# Altium schematic symbol library SW_MCU_Library_20180827.SCHLIB: 21 symbols
Pins are listed as number, name and electrical type; pins without a type are passive.

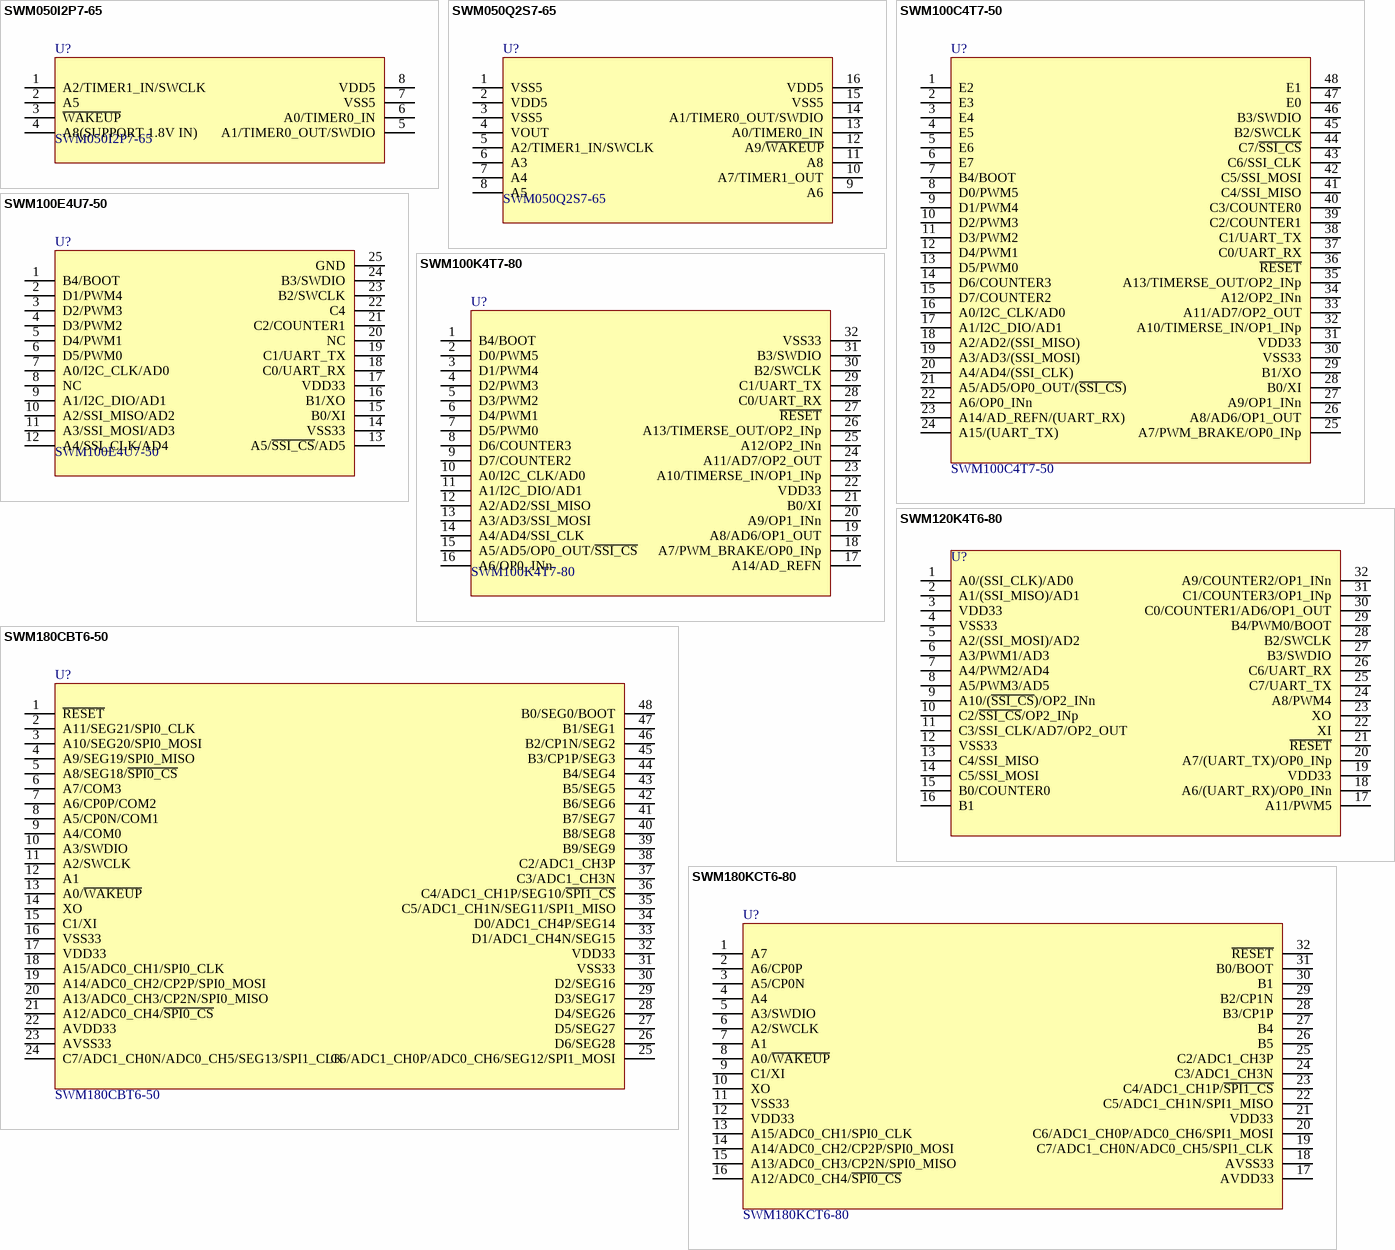
[diagram p0: symbols SWM050I2P7-65 to SWM180KCT6-80]

## SWM050I2P7-65
designator U?
微控制器, Cortex-M0系列
footprint TSSOP8 (TSOP, 8-Leads, Body 3x4.4mm, Pitch 0.65mm, IPC Low Density)
pins: 1 A2/TIMER1_IN/SWCLK, 2 A5, 3 ~{WAKEUP}, 4 A8(SUPPORT 1.8V IN), 5 A1/TIMER0_OUT/SWDIO, 6 A0/TIMER0_IN, 7 VSS5, 8 VDD5

## SWM050Q2S7-65
designator U?
微控制器, Cortex-M0系列
footprint SSOP16 (SSOP; 16 Leads; Body Width 5.3 mm; Pitch 0.65 mm)
pins: 1 VSS5, 2 VDD5, 3 VSS5, 4 VOUT, 5 A2/TIMER1_IN/SWCLK, 6 A3, 7 A4, 8 A5, 9 A6, 10 A7/TIMER1_OUT, 11 A8, 12 A9/~{WAKEUP}, 13 A0/TIMER0_IN, 14 A1/TIMER0_OUT/SWDIO, 15 VSS5, 16 VDD5

## SWM100C4T7-50
designator U?
微控制器, Cortex-M0系列
footprint LQFP48 (48-Pin Low-profile Quad Flat Pack 0.5 mm Pitch, IPC Low Density)
pins: 1 E2, 2 E3, 3 E4, 4 E5, 5 E6, 6 E7, 7 B4/BOOT, 8 D0/PWM5, 9 D1/PWM4, 10 D2/PWM3, 11 D3/PWM2, 12 D4/PWM1, 13 D5/PWM0, 14 D6/COUNTER3, 15 D7/COUNTER2, 16 A0/I2C_CLK/AD0, 17 A1/I2C_DIO/AD1, 18 A2/AD2/(SSI_MISO), 19 A3/AD3/(SSI_MOSI), 20 A4/AD4/(SSI_CLK), 21 A5/AD5/OP0_OUT/(~{SSI_CS}), 22 A6/OP0_INn, 23 A14/AD_REFN/(UART_RX), 24 A15/(UART_TX), 25 A7/PWM_BRAKE/OP0_INp, 26 A8/AD6/OP1_OUT, 27 A9/OP1_INn, 28 B0/XI, 29 B1/XO, 30 VSS33, 31 VDD33, 32 A10/TIMERSE_IN/OP1_INp, 33 A11/AD7/OP2_OUT, 34 A12/OP2_INn, 35 A13/TIMERSE_OUT/OP2_INp, 36 ~{RESET}, 37 C0/UART_RX, 38 C1/UART_TX, 39 C2/COUNTER1, 40 C3/COUNTER0, 41 C4/SSI_MISO, 42 C5/SSI_MOSI, 43 C6/SSI_CLK, 44 C7/~{SSI_CS}, 45 B2/SWCLK, 46 B3/SWDIO, 47 E0, 48 E1

## SWM100E4U7-50
designator U?
微控制器, Cortex-M0系列
footprint QFN24 (QFN, 24-Leads, Body 4x4mm, Pitch 0.5mm, IPC Low Density)
pins: 1 B4/BOOT, 2 D1/PWM4, 3 D2/PWM3, 4 D3/PWM2, 5 D4/PWM1, 6 D5/PWM0, 7 A0/I2C_CLK/AD0, 8 NC, 9 A1/I2C_DIO/AD1, 10 A2/SSI_MISO/AD2, 11 A3/SSI_MOSI/AD3, 12 A4/SSI_CLK/AD4, 13 A5/~{SSI_CS}/AD5, 14 VSS33, 15 B0/XI, 16 B1/XO, 17 VDD33, 18 C0/UART_RX, 19 C1/UART_TX, 20 NC, 21 C2/COUNTER1, 22 C4, 23 B2/SWCLK, 24 B3/SWDIO, 25 GND

## SWM100K4T7-80
designator U?
微控制器, Cortex-M0系列
footprint LQFP32 (TQFP, 32-Leads, Body 9.1x9.1mm (max), Pitch 0.80mm, IPC Medium Density)
footprint LQFP32 (TQFP, 32-Leads, Body 9.1x9.1mm (max), Pitch 0.80mm, IPC Medium Density)
pins: 1 B4/BOOT, 2 D0/PWM5, 3 D1/PWM4, 4 D2/PWM3, 5 D3/PWM2, 6 D4/PWM1, 7 D5/PWM0, 8 D6/COUNTER3, 9 D7/COUNTER2, 10 A0/I2C_CLK/AD0, 11 A1/I2C_DIO/AD1, 12 A2/AD2/SSI_MISO, 13 A3/AD3/SSI_MOSI, 14 A4/AD4/SSI_CLK, 15 A5/AD5/OP0_OUT/~{SSI_CS}, 16 A6/OP0_INn, 17 A14/AD_REFN, 18 A7/PWM_BRAKE/OP0_INp, 19 A8/AD6/OP1_OUT, 20 A9/OP1_INn, 21 B0/XI, 22 VDD33, 23 A10/TIMERSE_IN/OP1_INp, 24 A11/AD7/OP2_OUT, 25 A12/OP2_INn, 26 A13/TIMERSE_OUT/OP2_INp, 27 ~{RESET}, 28 C0/UART_RX, 29 C1/UART_TX, 30 B2/SWCLK, 31 B3/SWDIO, 32 VSS33

## SWM120K4T6-80
designator U?  (value not drawn)
微控制器, Cortex-M0系列
footprint LQFP32 (TQFP, 32-Leads, Body 9.2x9.2mm (max), Pitch 0.80mm, IPC Medium Density)
footprint SW-1200-1p2-test
footprint KL8
pins: 1 A0/(SSI_CLK)/AD0, 2 A1/(SSI_MISO)/AD1, 3 VDD33, 4 VSS33, 5 A2/(SSI_MOSI)/AD2, 6 A3/PWM1/AD3, 7 A4/PWM2/AD4, 8 A5/PWM3/AD5, 9 A10/(~{SSI_CS})/OP2_INn, 10 C2/~{SSI_CS}/OP2_INp, 11 C3/SSI_CLK/AD7/OP2_OUT, 12 VSS33, 13 C4/SSI_MISO, 14 C5/SSI_MOSI, 15 B0/COUNTER0, 16 B1, 17 A11/PWM5, 18 A6/(UART_RX)/OP0_INn, 19 VDD33, 20 A7/(UART_TX)/OP0_INp, 21 ~{RESET}, 22 XI, 23 XO, 24 A8/PWM4, 25 C7/UART_TX, 26 C6/UART_RX, 27 B3/SWDIO, 28 B2/SWCLK, 29 B4/PWM0/BOOT, 30 C0/COUNTER1/AD6/OP1_OUT, 31 C1/COUNTER3/OP1_INp, 32 A9/COUNTER2/OP1_INn

## SWM180CBT6-50
designator U?
微控制器, Cortex-M0系列
footprint LQFP48 (48-Pin Low-profile Quad Flat Pack 0.5 mm Pitch, IPC Low Density)
pins: 1 ~{RESET}, 2 A11/SEG21/SPI0_CLK, 3 A10/SEG20/SPI0_MOSI, 4 A9/SEG19/SPI0_MISO, 5 A8/SEG18/~{SPI0_CS}, 6 A7/COM3, 7 A6/CP0P/COM2, 8 A5/CP0N/COM1, 9 A4/COM0, 10 A3/SWDIO, 11 A2/SWCLK, 12 A1, 13 A0/~{WAKEUP}, 14 XO, 15 C1/XI, 16 VSS33, 17 VDD33, 18 A15/ADC0_CH1/SPI0_CLK, 19 A14/ADC0_CH2/CP2P/SPI0_MOSI, 20 A13/ADC0_CH3/CP2N/SPI0_MISO, 21 A12/ADC0_CH4/~{SPI0_CS}, 22 AVDD33, 23 AVSS33, 24 C7/ADC1_CH0N/ADC0_CH5/SEG13/SPI1_CLK, 25 C6/ADC1_CH0P/ADC0_CH6/SEG12/SPI1_MOSI, 26 D6/SEG28, 27 D5/SEG27, 28 D4/SEG26, 29 D3/SEG17, 30 D2/SEG16, 31 VSS33, 32 VDD33, 33 D1/ADC1_CH4N/SEG15, 34 D0/ADC1_CH4P/SEG14, 35 C5/ADC1_CH1N/SEG11/SPI1_MISO, 36 C4/ADC1_CH1P/SEG10/~{SPI1_CS}, 37 C3/ADC1_CH3N, 38 C2/ADC1_CH3P, 39 B9/SEG9, 40 B8/SEG8, 41 B7/SEG7, 42 B6/SEG6, 43 B5/SEG5, 44 B4/SEG4, 45 B3/CP1P/SEG3, 46 B2/CP1N/SEG2, 47 B1/SEG1, 48 B0/SEG0/BOOT

## SWM180KCT6-80
designator U?
微控制器, Cortex-M0系列
footprint LQFP32 (TQFP, 32-Leads, Body 9.2x9.2mm (max), Pitch 0.80mm, IPC Medium Density)
pins: 1 A7, 2 A6/CP0P, 3 A5/CP0N, 4 A4, 5 A3/SWDIO, 6 A2/SWCLK, 7 A1, 8 A0/~{WAKEUP}, 9 C1/XI, 10 XO, 11 VSS33, 12 VDD33, 13 A15/ADC0_CH1/SPI0_CLK, 14 A14/ADC0_CH2/CP2P/SPI0_MOSI, 15 A13/ADC0_CH3/CP2N/SPI0_MISO, 16 A12/ADC0_CH4/~{SPI0_CS}, 17 AVDD33, 18 AVSS33, 19 C7/ADC1_CH0N/ADC0_CH5/SPI1_CLK, 20 C6/ADC1_CH0P/ADC0_CH6/SPI1_MOSI, 21 VDD33, 22 C5/ADC1_CH1N/SPI1_MISO, 23 C4/ADC1_CH1P/~{SPI1_CS}, 24 C3/ADC1_CH3N, 25 C2/ADC1_CH3P, 26 B5, 27 B4, 28 B3/CP1P, 29 B2/CP1N, 30 B1, 31 B0/BOOT, 32 ~{RESET}

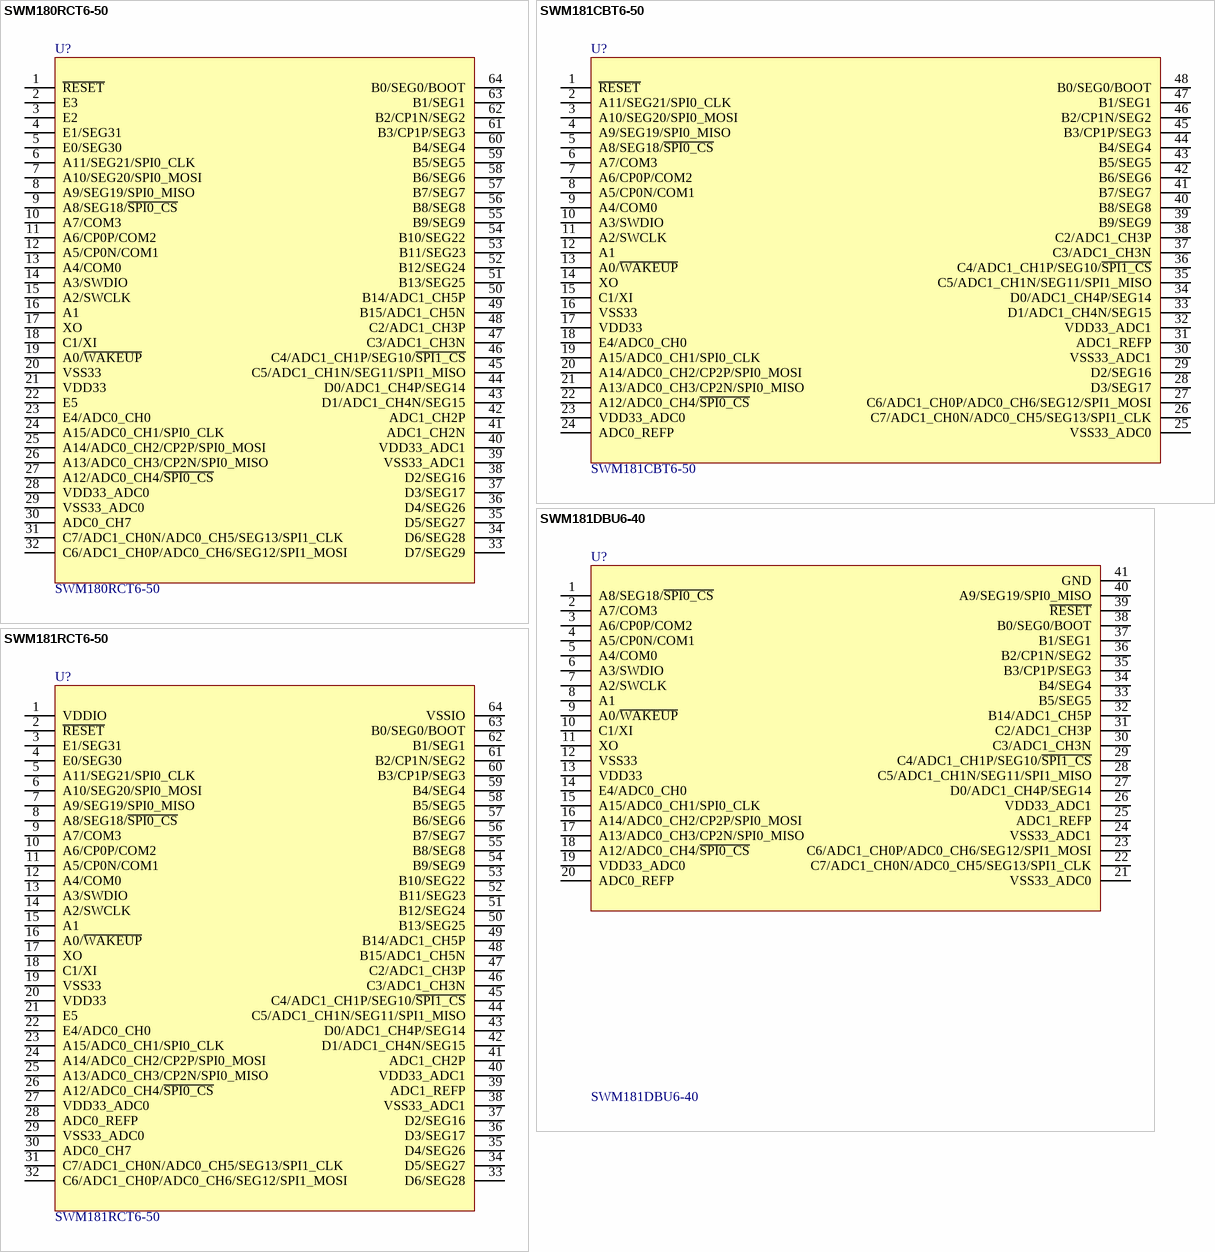
[diagram p1: symbols SWM180RCT6-50 to SWM181RCT6-50]

## SWM180RCT6-50
designator U?
微控制器, Cortex-M0系列
footprint LQFP64 (Thin QFP, 64-Leads, Body 10x10mm, Pitch 0.5mm, IPC Low Density)
pins: 1 ~{RESET}, 2 E3, 3 E2, 4 E1/SEG31, 5 E0/SEG30, 6 A11/SEG21/SPI0_CLK, 7 A10/SEG20/SPI0_MOSI, 8 A9/SEG19/SPI0_MISO, 9 A8/SEG18/~{SPI0_CS}, 10 A7/COM3, 11 A6/CP0P/COM2, 12 A5/CP0N/COM1, 13 A4/COM0, 14 A3/SWDIO, 15 A2/SWCLK, 16 A1, 17 XO, 18 C1/XI, 19 A0/~{WAKEUP}, 20 VSS33, 21 VDD33, 22 E5, 23 E4/ADC0_CH0, 24 A15/ADC0_CH1/SPI0_CLK, 25 A14/ADC0_CH2/CP2P/SPI0_MOSI, 26 A13/ADC0_CH3/CP2N/SPI0_MISO, 27 A12/ADC0_CH4/~{SPI0_CS}, 28 VDD33_ADC0, 29 VSS33_ADC0, 30 ADC0_CH7, 31 C7/ADC1_CH0N/ADC0_CH5/SEG13/SPI1_CLK, 32 C6/ADC1_CH0P/ADC0_CH6/SEG12/SPI1_MOSI, 33 D7/SEG29, 34 D6/SEG28, 35 D5/SEG27, 36 D4/SEG26, 37 D3/SEG17, 38 D2/SEG16, 39 VSS33_ADC1, 40 VDD33_ADC1, 41 ADC1_CH2N, 42 ADC1_CH2P, 43 D1/ADC1_CH4N/SEG15, 44 D0/ADC1_CH4P/SEG14, 45 C5/ADC1_CH1N/SEG11/SPI1_MISO, 46 C4/ADC1_CH1P/SEG10/~{SPI1_CS}, 47 C3/ADC1_CH3N, 48 C2/ADC1_CH3P, 49 B15/ADC1_CH5N, 50 B14/ADC1_CH5P, 51 B13/SEG25, 52 B12/SEG24, 53 B11/SEG23, 54 B10/SEG22, 55 B9/SEG9, 56 B8/SEG8, 57 B7/SEG7, 58 B6/SEG6, 59 B5/SEG5, 60 B4/SEG4, 61 B3/CP1P/SEG3, 62 B2/CP1N/SEG2, 63 B1/SEG1, 64 B0/SEG0/BOOT

## SWM181CBT6-50
designator U?
微控制器, Cortex-M0系列, AA-00
footprint HDR2X24 (SWM1500; Header; 64 Position)
pins: 1 ~{RESET}, 2 A11/SEG21/SPI0_CLK, 3 A10/SEG20/SPI0_MOSI, 4 A9/SEG19/SPI0_MISO, 5 A8/SEG18/~{SPI0_CS}, 6 A7/COM3, 7 A6/CP0P/COM2, 8 A5/CP0N/COM1, 9 A4/COM0, 10 A3/SWDIO, 11 A2/SWCLK, 12 A1, 13 A0/~{WAKEUP}, 14 XO, 15 C1/XI, 16 VSS33, 17 VDD33, 18 E4/ADC0_CH0, 19 A15/ADC0_CH1/SPI0_CLK, 20 A14/ADC0_CH2/CP2P/SPI0_MOSI, 21 A13/ADC0_CH3/CP2N/SPI0_MISO, 22 A12/ADC0_CH4/~{SPI0_CS}, 23 VDD33_ADC0, 24 ADC0_REFP, 25 VSS33_ADC0, 26 C7/ADC1_CH0N/ADC0_CH5/SEG13/SPI1_CLK, 27 C6/ADC1_CH0P/ADC0_CH6/SEG12/SPI1_MOSI, 28 D3/SEG17, 29 D2/SEG16, 30 VSS33_ADC1, 31 ADC1_REFP, 32 VDD33_ADC1, 33 D1/ADC1_CH4N/SEG15, 34 D0/ADC1_CH4P/SEG14, 35 C5/ADC1_CH1N/SEG11/SPI1_MISO, 36 C4/ADC1_CH1P/SEG10/~{SPI1_CS}, 37 C3/ADC1_CH3N, 38 C2/ADC1_CH3P, 39 B9/SEG9, 40 B8/SEG8, 41 B7/SEG7, 42 B6/SEG6, 43 B5/SEG5, 44 B4/SEG4, 45 B3/CP1P/SEG3, 46 B2/CP1N/SEG2, 47 B1/SEG1, 48 B0/SEG0/BOOT

## SWM181DBU6-40
designator U?
微控制器, Cortex-M0系列, AA-00
footprint LQFP64 (Thin QFP, 64-Leads, Body 10x10mm, Pitch 0.5mm, IPC Low Density)
pins: 1 A8/SEG18/~{SPI0_CS}, 2 A7/COM3, 3 A6/CP0P/COM2, 4 A5/CP0N/COM1, 5 A4/COM0, 6 A3/SWDIO, 7 A2/SWCLK, 8 A1, 9 A0/~{WAKEUP}, 10 C1/XI, 11 XO, 12 VSS33, 13 VDD33, 14 E4/ADC0_CH0, 15 A15/ADC0_CH1/SPI0_CLK, 16 A14/ADC0_CH2/CP2P/SPI0_MOSI, 17 A13/ADC0_CH3/CP2N/SPI0_MISO, 18 A12/ADC0_CH4/~{SPI0_CS}, 19 VDD33_ADC0, 20 ADC0_REFP, 21 VSS33_ADC0, 22 C7/ADC1_CH0N/ADC0_CH5/SEG13/SPI1_CLK, 23 C6/ADC1_CH0P/ADC0_CH6/SEG12/SPI1_MOSI, 24 VSS33_ADC1, 25 ADC1_REFP, 26 VDD33_ADC1, 27 D0/ADC1_CH4P/SEG14, 28 C5/ADC1_CH1N/SEG11/SPI1_MISO, 29 C4/ADC1_CH1P/SEG10/~{SPI1_CS}, 30 C3/ADC1_CH3N, 31 C2/ADC1_CH3P, 32 B14/ADC1_CH5P, 33 B5/SEG5, 34 B4/SEG4, 35 B3/CP1P/SEG3, 36 B2/CP1N/SEG2, 37 B1/SEG1, 38 B0/SEG0/BOOT, 39 ~{RESET}, 40 A9/SEG19/SPI0_MISO, 41 GND

## SWM181RCT6-50
designator U?
微控制器, Cortex-M0系列, AA-00
footprint LQFP64 (Thin QFP, 64-Leads, Body 10x10mm, Pitch 0.5mm, IPC Low Density)
pins: 1 VDDIO, 2 ~{RESET}, 3 E1/SEG31, 4 E0/SEG30, 5 A11/SEG21/SPI0_CLK, 6 A10/SEG20/SPI0_MOSI, 7 A9/SEG19/SPI0_MISO, 8 A8/SEG18/~{SPI0_CS}, 9 A7/COM3, 10 A6/CP0P/COM2, 11 A5/CP0N/COM1, 12 A4/COM0, 13 A3/SWDIO, 14 A2/SWCLK, 15 A1, 16 A0/~{WAKEUP}, 17 XO, 18 C1/XI, 19 VSS33, 20 VDD33, 21 E5, 22 E4/ADC0_CH0, 23 A15/ADC0_CH1/SPI0_CLK, 24 A14/ADC0_CH2/CP2P/SPI0_MOSI, 25 A13/ADC0_CH3/CP2N/SPI0_MISO, 26 A12/ADC0_CH4/~{SPI0_CS}, 27 VDD33_ADC0, 28 ADC0_REFP, 29 VSS33_ADC0, 30 ADC0_CH7, 31 C7/ADC1_CH0N/ADC0_CH5/SEG13/SPI1_CLK, 32 C6/ADC1_CH0P/ADC0_CH6/SEG12/SPI1_MOSI, 33 D6/SEG28, 34 D5/SEG27, 35 D4/SEG26, 36 D3/SEG17, 37 D2/SEG16, 38 VSS33_ADC1, 39 ADC1_REFP, 40 VDD33_ADC1, 41 ADC1_CH2P, 42 D1/ADC1_CH4N/SEG15, 43 D0/ADC1_CH4P/SEG14, 44 C5/ADC1_CH1N/SEG11/SPI1_MISO, 45 C4/ADC1_CH1P/SEG10/~{SPI1_CS}, 46 C3/ADC1_CH3N, 47 C2/ADC1_CH3P, 48 B15/ADC1_CH5N, 49 B14/ADC1_CH5P, 50 B13/SEG25, 51 B12/SEG24, 52 B11/SEG23, 53 B10/SEG22, 54 B9/SEG9, 55 B8/SEG8, 56 B7/SEG7, 57 B6/SEG6, 58 B5/SEG5, 59 B4/SEG4, 60 B3/CP1P/SEG3, 61 B2/CP1N/SEG2, 62 B1/SEG1, 63 B0/SEG0/BOOT, 64 VSSIO

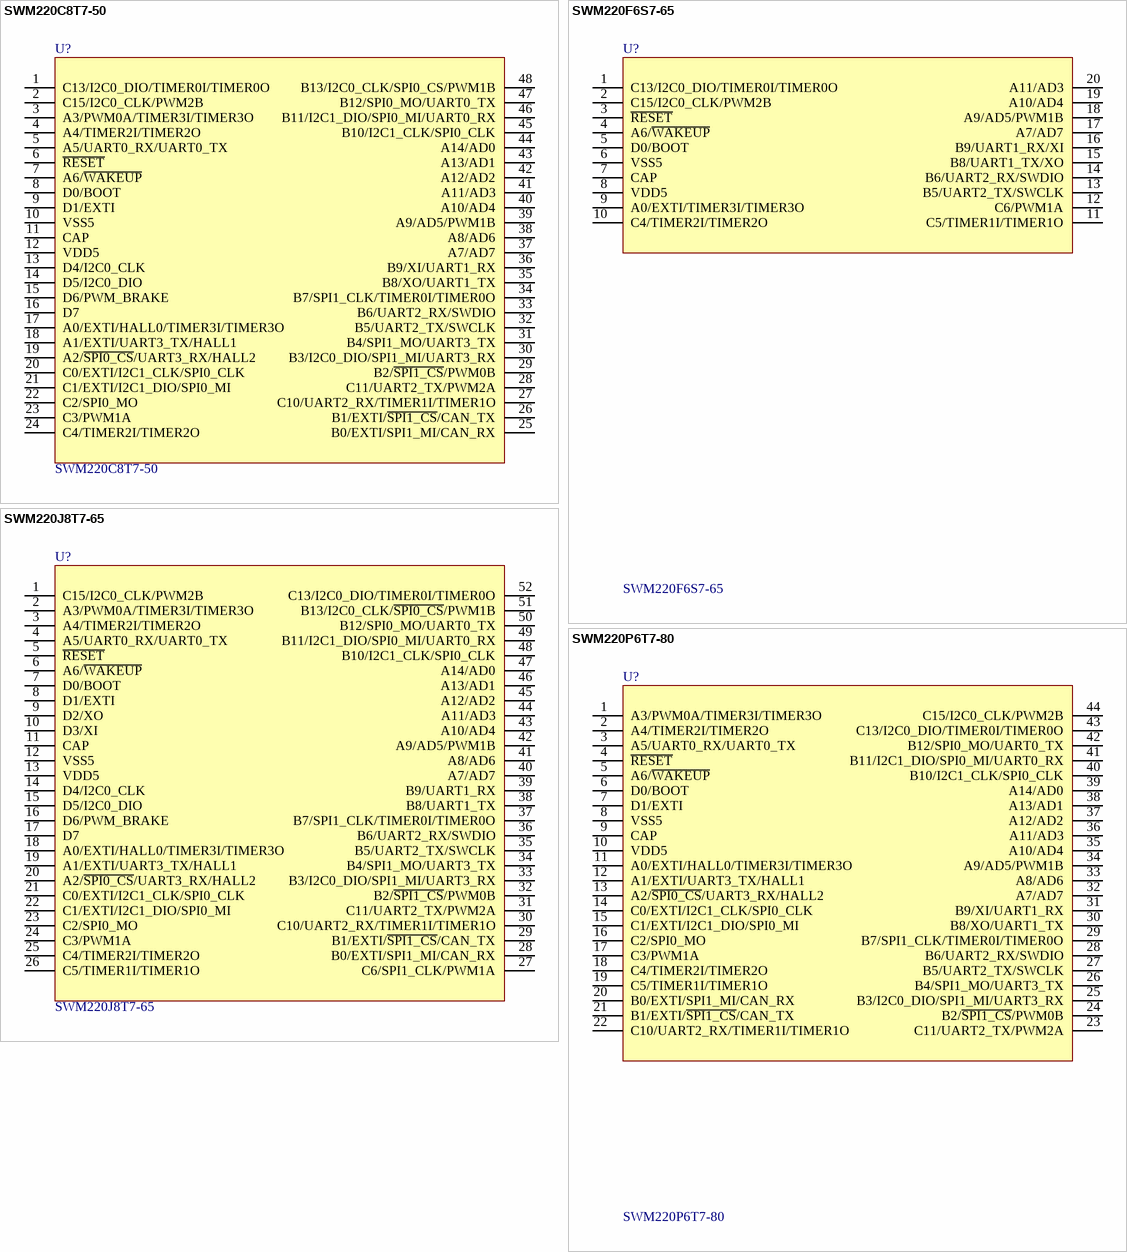
[diagram p2: symbols SWM220C8T7-50 to SWM220P6T7-80]

## SWM220C8T7-50
designator U?
微控制器, Cortex-M0系列
footprint LQFP48 (48-Pin Low-profile Quad Flat Pack 0.5 mm Pitch, IPC Low Density)
pins: 1 C13/I2C0_DIO/TIMER0I/TIMER0O, 2 C15/I2C0_CLK/PWM2B, 3 A3/PWM0A/TIMER3I/TIMER3O, 4 A4/TIMER2I/TIMER2O, 5 A5/UART0_RX/UART0_TX, 6 ~{RESET}, 7 A6/~{WAKEUP}, 8 D0/BOOT, 9 D1/EXTI, 10 VSS5, 11 CAP, 12 VDD5, 13 D4/I2C0_CLK, 14 D5/I2C0_DIO, 15 D6/PWM_BRAKE, 16 D7, 17 A0/EXTI/HALL0/TIMER3I/TIMER3O, 18 A1/EXTI/UART3_TX/HALL1, 19 A2/~{SPI0_CS}/UART3_RX/HALL2, 20 C0/EXTI/I2C1_CLK/SPI0_CLK, 21 C1/EXTI/I2C1_DIO/SPI0_MI, 22 C2/SPI0_MO, 23 C3/PWM1A, 24 C4/TIMER2I/TIMER2O, 25 B0/EXTI/SPI1_MI/CAN_RX, 26 B1/EXTI/~{SPI1_CS}/CAN_TX, 27 C10/UART2_RX/TIMER1I/TIMER1O, 28 C11/UART2_TX/PWM2A, 29 B2/~{SPI1_CS}/PWM0B, 30 B3/I2C0_DIO/SPI1_MI/UART3_RX, 31 B4/SPI1_MO/UART3_TX, 32 B5/UART2_TX/SWCLK, 33 B6/UART2_RX/SWDIO, 34 B7/SPI1_CLK/TIMER0I/TIMER0O, 35 B8/XO/UART1_TX, 36 B9/XI/UART1_RX, 37 A7/AD7, 38 A8/AD6, 39 A9/AD5/PWM1B, 40 A10/AD4, 41 A11/AD3, 42 A12/AD2, 43 A13/AD1, 44 A14/AD0, 45 B10/I2C1_CLK/SPI0_CLK, 46 B11/I2C1_DIO/SPI0_MI/UART0_RX, 47 B12/SPI0_MO/UART0_TX, 48 B13/I2C0_CLK/SPI0_CS/PWM1B

## SWM220F6S7-65
designator U?
微控制器, Cortex-M0系列
footprint SSOP20 (SOP, 20-Leads, Body 7.3x5.4mm (max), Pitch 0.65mm, IPC Medium Density)
pins: 1 C13/I2C0_DIO/TIMER0I/TIMER0O, 2 C15/I2C0_CLK/PWM2B, 3 ~{RESET}, 4 A6/~{WAKEUP}, 5 D0/BOOT, 6 VSS5, 7 CAP, 8 VDD5, 9 A0/EXTI/TIMER3I/TIMER3O, 10 C4/TIMER2I/TIMER2O, 11 C5/TIMER1I/TIMER1O, 12 C6/PWM1A, 13 B5/UART2_TX/SWCLK, 14 B6/UART2_RX/SWDIO, 15 B8/UART1_TX/XO, 16 B9/UART1_RX/XI, 17 A7/AD7, 18 A9/AD5/PWM1B, 19 A10/AD4, 20 A11/AD3

## SWM220J8T7-65
designator U?
微控制器, Cortex-M0系列
footprint LQFP52 (TQFP, 52-Leads, Body 12.2x12.2mm (max), Pitch 0.65mm, IPC Medium Density)
pins: 1 C15/I2C0_CLK/PWM2B, 2 A3/PWM0A/TIMER3I/TIMER3O, 3 A4/TIMER2I/TIMER2O, 4 A5/UART0_RX/UART0_TX, 5 ~{RESET}, 6 A6/~{WAKEUP}, 7 D0/BOOT, 8 D1/EXTI, 9 D2/XO, 10 D3/XI, 11 CAP, 12 VSS5, 13 VDD5, 14 D4/I2C0_CLK, 15 D5/I2C0_DIO, 16 D6/PWM_BRAKE, 17 D7, 18 A0/EXTI/HALL0/TIMER3I/TIMER3O, 19 A1/EXTI/UART3_TX/HALL1, 20 A2/~{SPI0_CS}/UART3_RX/HALL2, 21 C0/EXTI/I2C1_CLK/SPI0_CLK, 22 C1/EXTI/I2C1_DIO/SPI0_MI, 23 C2/SPI0_MO, 24 C3/PWM1A, 25 C4/TIMER2I/TIMER2O, 26 C5/TIMER1I/TIMER1O, 27 C6/SPI1_CLK/PWM1A, 28 B0/EXTI/SPI1_MI/CAN_RX, 29 B1/EXTI/~{SPI1_CS}/CAN_TX, 30 C10/UART2_RX/TIMER1I/TIMER1O, 31 C11/UART2_TX/PWM2A, 32 B2/~{SPI1_CS}/PWM0B, 33 B3/I2C0_DIO/SPI1_MI/UART3_RX, 34 B4/SPI1_MO/UART3_TX, 35 B5/UART2_TX/SWCLK, 36 B6/UART2_RX/SWDIO, 37 B7/SPI1_CLK/TIMER0I/TIMER0O, 38 B8/UART1_TX, 39 B9/UART1_RX, 40 A7/AD7, 41 A8/AD6, 42 A9/AD5/PWM1B, 43 A10/AD4, 44 A11/AD3, 45 A12/AD2, 46 A13/AD1, 47 A14/AD0, 48 B10/I2C1_CLK/SPI0_CLK, 49 B11/I2C1_DIO/SPI0_MI/UART0_RX, 50 B12/SPI0_MO/UART0_TX, 51 B13/I2C0_CLK/~{SPI0_CS}/PWM1B, 52 C13/I2C0_DIO/TIMER0I/TIMER0O

## SWM220P6T7-80
designator U?
微控制器, Cortex-M0系列, AA-00
footprint LQFP64 (Thin QFP, 64-Leads, Body 10x10mm, Pitch 0.5mm, IPC Low Density)
pins: 1 A3/PWM0A/TIMER3I/TIMER3O, 2 A4/TIMER2I/TIMER2O, 3 A5/UART0_RX/UART0_TX, 4 ~{RESET}, 5 A6/~{WAKEUP}, 6 D0/BOOT, 7 D1/EXTI, 8 VSS5, 9 CAP, 10 VDD5, 11 A0/EXTI/HALL0/TIMER3I/TIMER3O, 12 A1/EXTI/UART3_TX/HALL1, 13 A2/~{SPI0_CS}/UART3_RX/HALL2, 14 C0/EXTI/I2C1_CLK/SPI0_CLK, 15 C1/EXTI/I2C1_DIO/SPI0_MI, 16 C2/SPI0_MO, 17 C3/PWM1A, 18 C4/TIMER2I/TIMER2O, 19 C5/TIMER1I/TIMER1O, 20 B0/EXTI/SPI1_MI/CAN_RX, 21 B1/EXTI/~{SPI1_CS}/CAN_TX, 22 C10/UART2_RX/TIMER1I/TIMER1O, 23 C11/UART2_TX/PWM2A, 24 B2/~{SPI1_CS}/PWM0B, 25 B3/I2C0_DIO/SPI1_MI/UART3_RX, 26 B4/SPI1_MO/UART3_TX, 27 B5/UART2_TX/SWCLK, 28 B6/UART2_RX/SWDIO, 29 B7/SPI1_CLK/TIMER0I/TIMER0O, 30 B8/XO/UART1_TX, 31 B9/XI/UART1_RX, 32 A7/AD7, 33 A8/AD6, 34 A9/AD5/PWM1B, 35 A10/AD4, 36 A11/AD3, 37 A12/AD2, 38 A13/AD1, 39 A14/AD0, 40 B10/I2C1_CLK/SPI0_CLK, 41 B11/I2C1_DIO/SPI0_MI/UART0_RX, 42 B12/SPI0_MO/UART0_TX, 43 C13/I2C0_DIO/TIMER0I/TIMER0O, 44 C15/I2C0_CLK/PWM2B

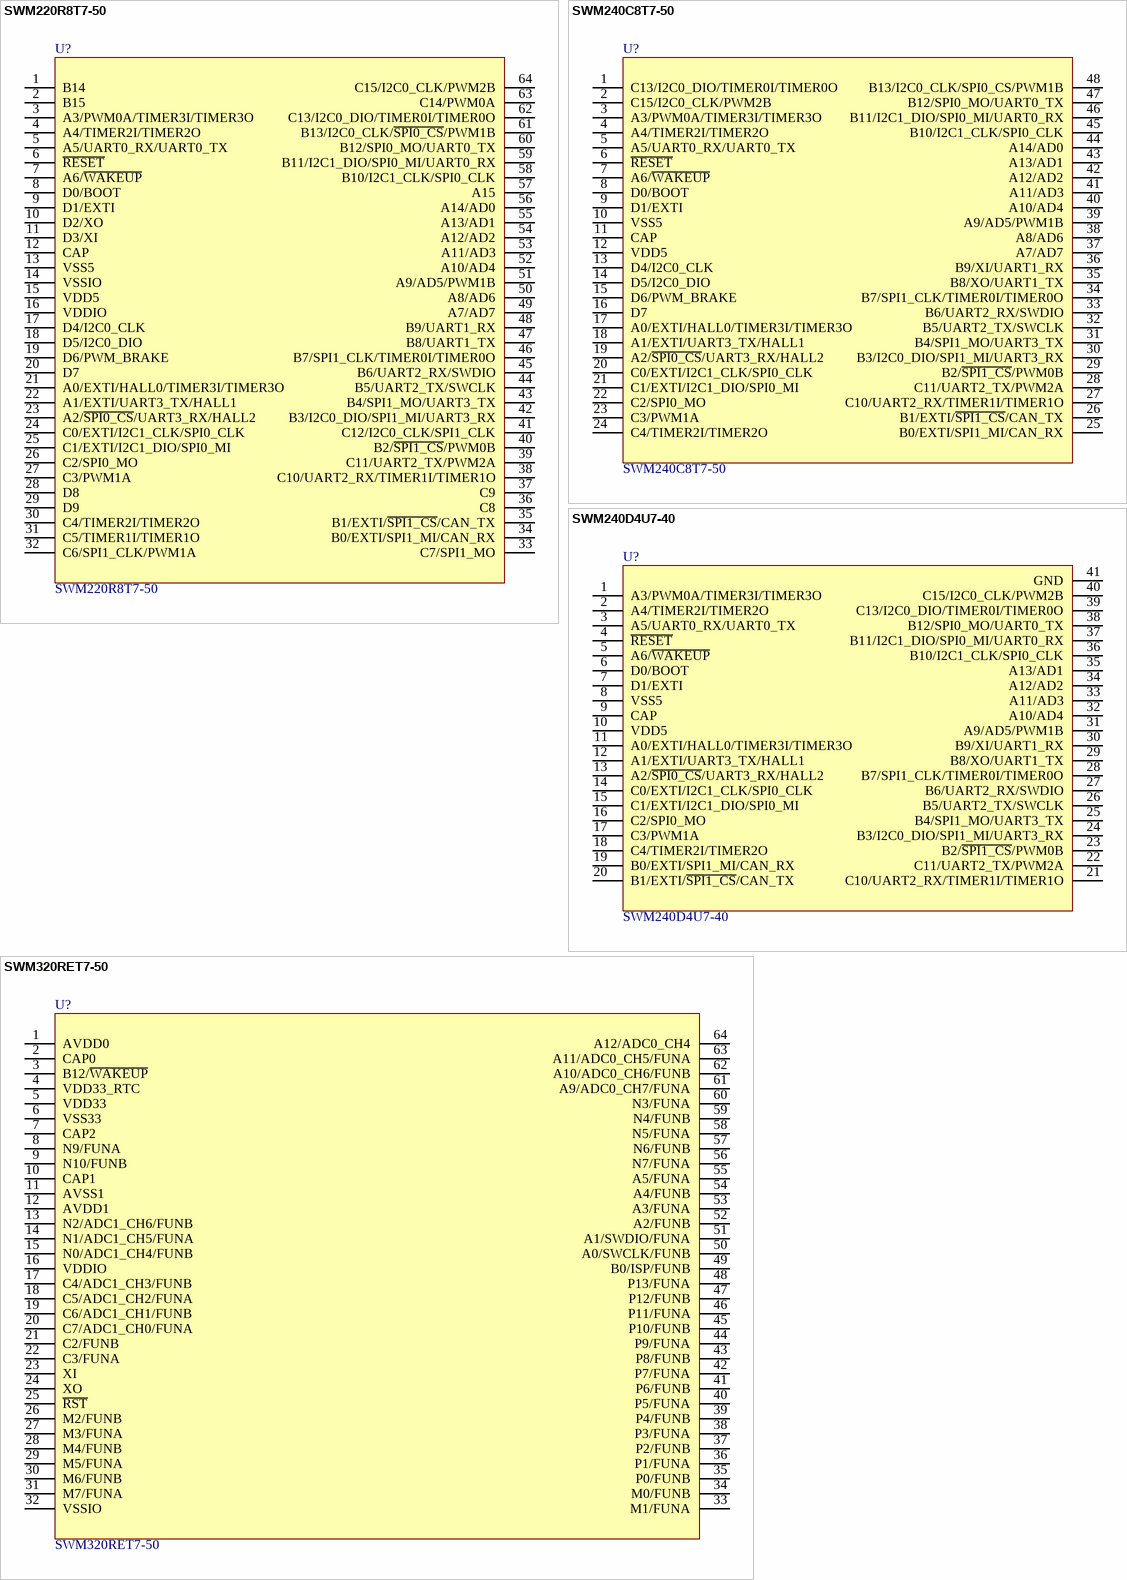
[diagram p3: symbols SWM220R8T7-50 to SWM320RET7-50]

## SWM220R8T7-50
designator U?
微控制器, Cortex-M0系列
footprint LQFP64 (Thin QFP, 64-Leads, Body 10x10mm, Pitch 0.5mm, IPC Low Density)
pins: 1 B14, 2 B15, 3 A3/PWM0A/TIMER3I/TIMER3O, 4 A4/TIMER2I/TIMER2O, 5 A5/UART0_RX/UART0_TX, 6 ~{RESET}, 7 A6/~{WAKEUP}, 8 D0/BOOT, 9 D1/EXTI, 10 D2/XO, 11 D3/XI, 12 CAP, 13 VSS5, 14 VSSIO, 15 VDD5, 16 VDDIO, 17 D4/I2C0_CLK, 18 D5/I2C0_DIO, 19 D6/PWM_BRAKE, 20 D7, 21 A0/EXTI/HALL0/TIMER3I/TIMER3O, 22 A1/EXTI/UART3_TX/HALL1, 23 A2/~{SPI0_CS}/UART3_RX/HALL2, 24 C0/EXTI/I2C1_CLK/SPI0_CLK, 25 C1/EXTI/I2C1_DIO/SPI0_MI, 26 C2/SPI0_MO, 27 C3/PWM1A, 28 D8, 29 D9, 30 C4/TIMER2I/TIMER2O, 31 C5/TIMER1I/TIMER1O, 32 C6/SPI1_CLK/PWM1A, 33 C7/SPI1_MO, 34 B0/EXTI/SPI1_MI/CAN_RX, 35 B1/EXTI/~{SPI1_CS}/CAN_TX, 36 C8, 37 C9, 38 C10/UART2_RX/TIMER1I/TIMER1O, 39 C11/UART2_TX/PWM2A, 40 B2/~{SPI1_CS}/PWM0B, 41 C12/I2C0_CLK/SPI1_CLK, 42 B3/I2C0_DIO/SPI1_MI/UART3_RX, 43 B4/SPI1_MO/UART3_TX, 44 B5/UART2_TX/SWCLK, 45 B6/UART2_RX/SWDIO, 46 B7/SPI1_CLK/TIMER0I/TIMER0O, 47 B8/UART1_TX, 48 B9/UART1_RX, 49 A7/AD7, 50 A8/AD6, 51 A9/AD5/PWM1B, 52 A10/AD4, 53 A11/AD3, 54 A12/AD2, 55 A13/AD1, 56 A14/AD0, 57 A15, 58 B10/I2C1_CLK/SPI0_CLK, 59 B11/I2C1_DIO/SPI0_MI/UART0_RX, 60 B12/SPI0_MO/UART0_TX, 61 B13/I2C0_CLK/~{SPI0_CS}/PWM1B, 62 C13/I2C0_DIO/TIMER0I/TIMER0O, 63 C14/PWM0A, 64 C15/I2C0_CLK/PWM2B

## SWM240C8T7-50
designator U?
微控制器, Cortex-M0系列
footprint LQFP48 (48-Pin Low-profile Quad Flat Pack 0.5 mm Pitch, IPC Low Density)
pins: 1 C13/I2C0_DIO/TIMER0I/TIMER0O, 2 C15/I2C0_CLK/PWM2B, 3 A3/PWM0A/TIMER3I/TIMER3O, 4 A4/TIMER2I/TIMER2O, 5 A5/UART0_RX/UART0_TX, 6 ~{RESET}, 7 A6/~{WAKEUP}, 8 D0/BOOT, 9 D1/EXTI, 10 VSS5, 11 CAP, 12 VDD5, 13 D4/I2C0_CLK, 14 D5/I2C0_DIO, 15 D6/PWM_BRAKE, 16 D7, 17 A0/EXTI/HALL0/TIMER3I/TIMER3O, 18 A1/EXTI/UART3_TX/HALL1, 19 A2/~{SPI0_CS}/UART3_RX/HALL2, 20 C0/EXTI/I2C1_CLK/SPI0_CLK, 21 C1/EXTI/I2C1_DIO/SPI0_MI, 22 C2/SPI0_MO, 23 C3/PWM1A, 24 C4/TIMER2I/TIMER2O, 25 B0/EXTI/SPI1_MI/CAN_RX, 26 B1/EXTI/~{SPI1_CS}/CAN_TX, 27 C10/UART2_RX/TIMER1I/TIMER1O, 28 C11/UART2_TX/PWM2A, 29 B2/~{SPI1_CS}/PWM0B, 30 B3/I2C0_DIO/SPI1_MI/UART3_RX, 31 B4/SPI1_MO/UART3_TX, 32 B5/UART2_TX/SWCLK, 33 B6/UART2_RX/SWDIO, 34 B7/SPI1_CLK/TIMER0I/TIMER0O, 35 B8/XO/UART1_TX, 36 B9/XI/UART1_RX, 37 A7/AD7, 38 A8/AD6, 39 A9/AD5/PWM1B, 40 A10/AD4, 41 A11/AD3, 42 A12/AD2, 43 A13/AD1, 44 A14/AD0, 45 B10/I2C1_CLK/SPI0_CLK, 46 B11/I2C1_DIO/SPI0_MI/UART0_RX, 47 B12/SPI0_MO/UART0_TX, 48 B13/I2C0_CLK/SPI0_CS/PWM1B

## SWM240D4U7-40
designator U?
微控制器, Cortex-M0系列
footprint QFN40 (QFN, 40-Leads, Body 6x6mm, Pitch 0.5mm, IPC Low Density)
pins: 1 A3/PWM0A/TIMER3I/TIMER3O, 2 A4/TIMER2I/TIMER2O, 3 A5/UART0_RX/UART0_TX, 4 ~{RESET}, 5 A6/~{WAKEUP}, 6 D0/BOOT, 7 D1/EXTI, 8 VSS5, 9 CAP, 10 VDD5, 11 A0/EXTI/HALL0/TIMER3I/TIMER3O, 12 A1/EXTI/UART3_TX/HALL1, 13 A2/~{SPI0_CS}/UART3_RX/HALL2, 14 C0/EXTI/I2C1_CLK/SPI0_CLK, 15 C1/EXTI/I2C1_DIO/SPI0_MI, 16 C2/SPI0_MO, 17 C3/PWM1A, 18 C4/TIMER2I/TIMER2O, 19 B0/EXTI/SPI1_MI/CAN_RX, 20 B1/EXTI/~{SPI1_CS}/CAN_TX, 21 C10/UART2_RX/TIMER1I/TIMER1O, 22 C11/UART2_TX/PWM2A, 23 B2/~{SPI1_CS}/PWM0B, 24 B3/I2C0_DIO/SPI1_MI/UART3_RX, 25 B4/SPI1_MO/UART3_TX, 26 B5/UART2_TX/SWCLK, 27 B6/UART2_RX/SWDIO, 28 B7/SPI1_CLK/TIMER0I/TIMER0O, 29 B8/XO/UART1_TX, 30 B9/XI/UART1_RX, 31 A9/AD5/PWM1B, 32 A10/AD4, 33 A11/AD3, 34 A12/AD2, 35 A13/AD1, 36 B10/I2C1_CLK/SPI0_CLK, 37 B11/I2C1_DIO/SPI0_MI/UART0_RX, 38 B12/SPI0_MO/UART0_TX, 39 C13/I2C0_DIO/TIMER0I/TIMER0O, 40 C15/I2C0_CLK/PWM2B, 41 GND

## SWM320RET7-50
designator U?
微控制器, Cortex-M4系列, BA-00
footprint LQFP64 (Thin QFP, 64-Leads, Body 10x10mm, Pitch 0.5mm, IPC Low Density)
pins: 1 AVDD0, 2 CAP0, 3 B12/~{WAKEUP}, 4 VDD33_RTC, 5 VDD33, 6 VSS33, 7 CAP2, 8 N9/FUNA, 9 N10/FUNB, 10 CAP1, 11 AVSS1, 12 AVDD1, 13 N2/ADC1_CH6/FUNB, 14 N1/ADC1_CH5/FUNA, 15 N0/ADC1_CH4/FUNB, 16 VDDIO, 17 C4/ADC1_CH3/FUNB, 18 C5/ADC1_CH2/FUNA, 19 C6/ADC1_CH1/FUNB, 20 C7/ADC1_CH0/FUNA, 21 C2/FUNB, 22 C3/FUNA, 23 XI, 24 XO, 25 ~{RST}, 26 M2/FUNB, 27 M3/FUNA, 28 M4/FUNB, 29 M5/FUNA, 30 M6/FUNB, 31 M7/FUNA, 32 VSSIO, 33 M1/FUNA, 34 M0/FUNB, 35 P0/FUNB, 36 P1/FUNA, 37 P2/FUNB, 38 P3/FUNA, 39 P4/FUNB, 40 P5/FUNA, 41 P6/FUNB, 42 P7/FUNA, 43 P8/FUNB, 44 P9/FUNA, 45 P10/FUNB, 46 P11/FUNA, 47 P12/FUNB, 48 P13/FUNA, 49 B0/ISP/FUNB, 50 A0/SWCLK/FUNB, 51 A1/SWDIO/FUNA, 52 A2/FUNB, 53 A3/FUNA, 54 A4/FUNB, 55 A5/FUNA, 56 N7/FUNA, 57 N6/FUNB, 58 N5/FUNA, 59 N4/FUNB, 60 N3/FUNA, 61 A9/ADC0_CH7/FUNA, 62 A10/ADC0_CH6/FUNB, 63 A11/ADC0_CH5/FUNA, 64 A12/ADC0_CH4

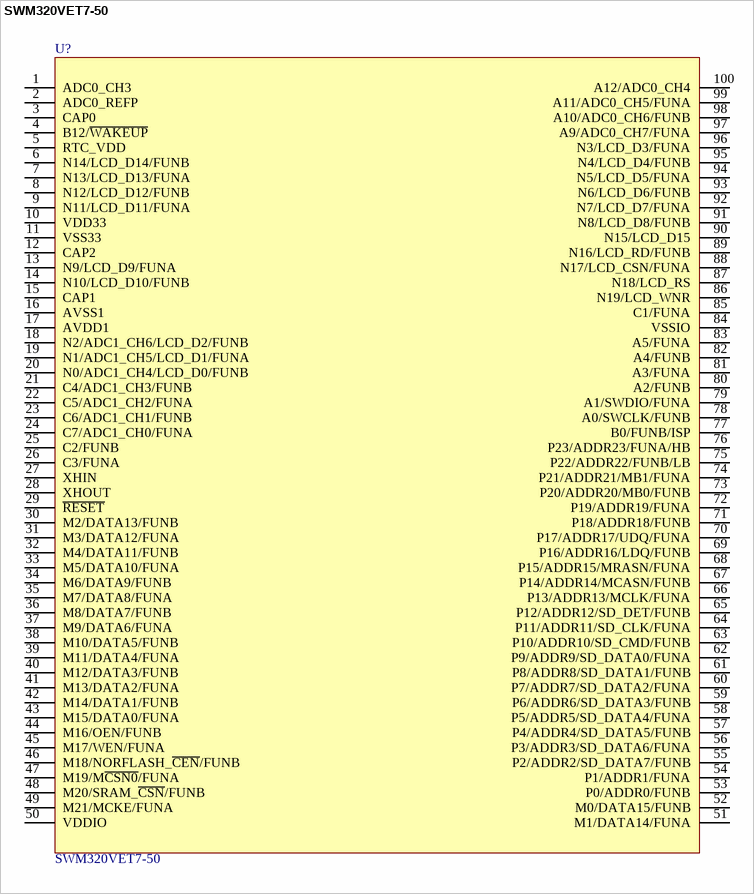
[diagram p4: symbol SWM320VET7-50]

## SWM320VET7-50
designator U?
微控制器, Cortex-M4系列, BA-00
footprint LQFP100 (TSQFP, 100-Leads, Body 16.2x16.2mm (max), Pitch 0.50mm, IPC Low Density)
pins: 1 ADC0_CH3, 2 ADC0_REFP, 3 CAP0, 4 B12/~{WAKEUP}, 5 RTC_VDD, 6 N14/LCD_D14/FUNB, 7 N13/LCD_D13/FUNA, 8 N12/LCD_D12/FUNB, 9 N11/LCD_D11/FUNA, 10 VDD33, 11 VSS33, 12 CAP2, 13 N9/LCD_D9/FUNA, 14 N10/LCD_D10/FUNB, 15 CAP1, 16 AVSS1, 17 AVDD1, 18 N2/ADC1_CH6/LCD_D2/FUNB, 19 N1/ADC1_CH5/LCD_D1/FUNA, 20 N0/ADC1_CH4/LCD_D0/FUNB, 21 C4/ADC1_CH3/FUNB, 22 C5/ADC1_CH2/FUNA, 23 C6/ADC1_CH1/FUNB, 24 C7/ADC1_CH0/FUNA, 25 C2/FUNB, 26 C3/FUNA, 27 XHIN, 28 XHOUT, 29 ~{RESET}, 30 M2/DATA13/FUNB, 31 M3/DATA12/FUNA, 32 M4/DATA11/FUNB, 33 M5/DATA10/FUNA, 34 M6/DATA9/FUNB, 35 M7/DATA8/FUNA, 36 M8/DATA7/FUNB, 37 M9/DATA6/FUNA, 38 M10/DATA5/FUNB, 39 M11/DATA4/FUNA, 40 M12/DATA3/FUNB, 41 M13/DATA2/FUNA, 42 M14/DATA1/FUNB, 43 M15/DATA0/FUNA, 44 M16/OEN/FUNB, 45 M17/WEN/FUNA, 46 M18/NORFLASH_~{CEN}/FUNB, 47 M19/M~{CSN0}/FUNA, 48 M20/SRAM_~{CSN}/FUNB, 49 M21/MCKE/FUNA, 50 VDDIO, 51 M1/DATA14/FUNA, 52 M0/DATA15/FUNB, 53 P0/ADDR0/FUNB, 54 P1/ADDR1/FUNA, 55 P2/ADDR2/SD_DATA7/FUNB, 56 P3/ADDR3/SD_DATA6/FUNA, 57 P4/ADDR4/SD_DATA5/FUNB, 58 P5/ADDR5/SD_DATA4/FUNA, 59 P6/ADDR6/SD_DATA3/FUNB, 60 P7/ADDR7/SD_DATA2/FUNA, 61 P8/ADDR8/SD_DATA1/FUNB, 62 P9/ADDR9/SD_DATA0/FUNA, 63 P10/ADDR10/SD_CMD/FUNB, 64 P11/ADDR11/SD_CLK/FUNA, 65 P12/ADDR12/SD_DET/FUNB, 66 P13/ADDR13/MCLK/FUNA, 67 P14/ADDR14/MCASN/FUNB, 68 P15/ADDR15/MRASN/FUNA, 69 P16/ADDR16/LDQ/FUNB, 70 P17/ADDR17/UDQ/FUNA, 71 P18/ADDR18/FUNB, 72 P19/ADDR19/FUNA, 73 P20/ADDR20/MB0/FUNB, 74 P21/ADDR21/MB1/FUNA, 75 P22/ADDR22/FUNB/LB, 76 P23/ADDR23/FUNA/HB, 77 B0/FUNB/ISP, 78 A0/SWCLK/FUNB, 79 A1/SWDIO/FUNA, 80 A2/FUNB, 81 A3/FUNA, 82 A4/FUNB, 83 A5/FUNA, 84 VSSIO, 85 C1/FUNA, 86 N19/LCD_WNR, 87 N18/LCD_RS, 88 N17/LCD_CSN/FUNA, 89 N16/LCD_RD/FUNB, 90 N15/LCD_D15, 91 N8/LCD_D8/FUNB, 92 N7/LCD_D7/FUNA, 93 N6/LCD_D6/FUNB, 94 N5/LCD_D5/FUNA, 95 N4/LCD_D4/FUNB, 96 N3/LCD_D3/FUNA, 97 A9/ADC0_CH7/FUNA, 98 A10/ADC0_CH6/FUNB, 99 A11/ADC0_CH5/FUNA, 100 A12/ADC0_CH4